# Altium integrated library SparkFun-IC-Comms.Library.IntLib: 30 symbols
Pins are listed as number, name and electrical type; pins without a type are passive.

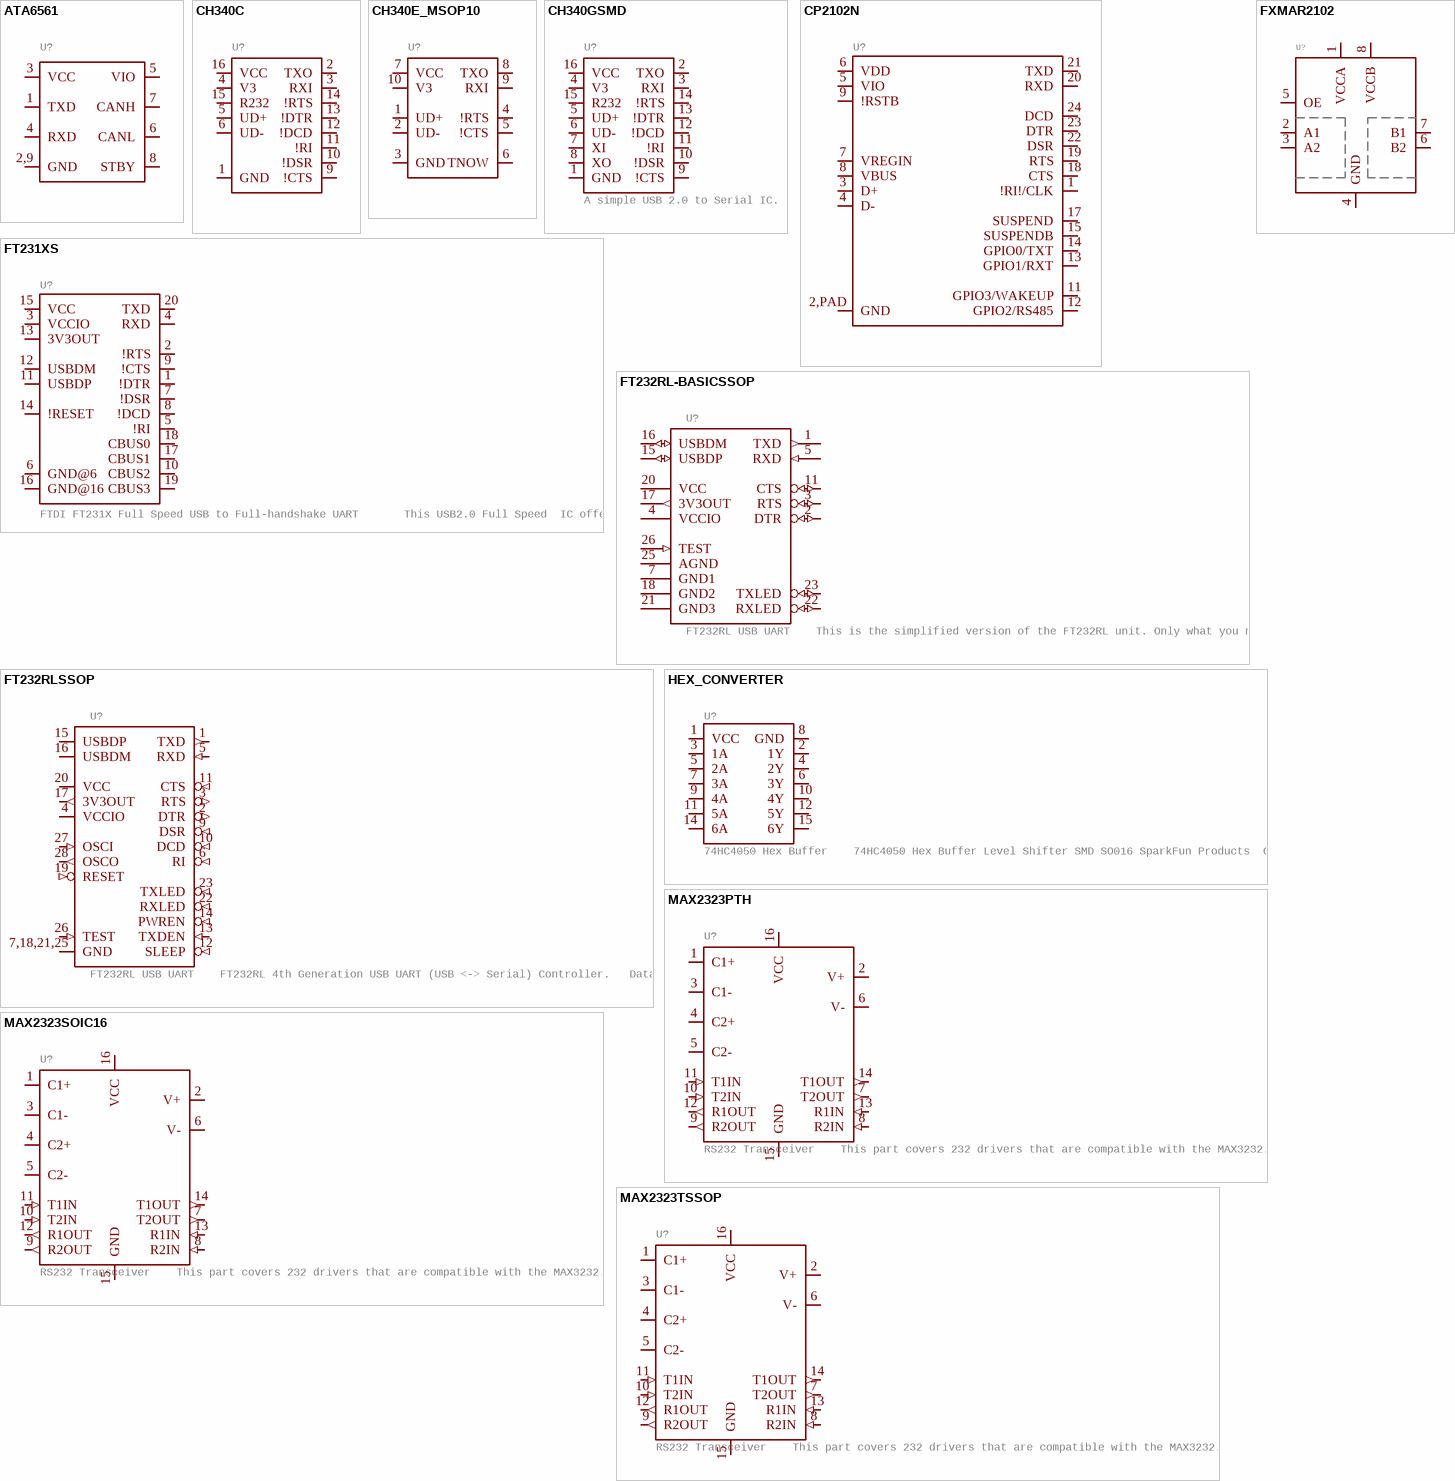
[diagram p0: symbols ATA6561 to MAX2323TSSOP]

## ATA6561
designator U?
GateName_1: G$1; SymbolName_1: ATA6561DFN8; DeviceSetName: ATA6561; PROD_ID: IC-13837; LibraryName: SparkFun-IC-Comms; Package: DFN8
footprint DFN8
pins: 1 TXD (io), 2,9 GND (io), 3 VCC (io), 4 RXD (io), 5 VIO (io), 6 CANL (io), 7 CANH (io), 8 STBY (io)

## CH340C
designator U?
GateName_1: U1; SymbolName_1: CH340C; PROD_ID: IC-14038; LibraryName: SparkFun-IC-Comms; DeviceSetName: CH340C; Package: SO016
footprint SO016
pins: 1 GND (io), 2 TXO (io), 3 RXI (io), 4 V3 (io), 5 UD+ (io), 6 UD- (io), 9 !CTS (io), 10 !DSR (io), 11 !RI (io), 12 !DCD (io), 13 !DTR (io), 14 !RTS (io), 15 R232 (io), 16 VCC (io)

## CH340E_MSOP10
designator U?
GateName_1: U1; SymbolName_1: CH340E; DeviceName: _MSOP10; PROD_ID: IC-14135; LibraryName: SparkFun-IC-Comms; DeviceSetName: CH340E; Package: MSOP10
footprint MSOP10
pins: 1 UD+ (io), 2 UD- (io), 3 GND (io), 4 !RTS (io), 5 !CTS (io), 6 TNOW (io), 7 VCC (io), 8 TXO (io), 9 RXI (io), 10 V3 (io)

## CH340GSMD
designator U?, comment A simple USB 2.0 to Serial IC.
GateName_1: U1; SymbolName_1: CH340G; DeviceName: SMD; PROD_ID: IC-13498; LibraryName: SparkFun-IC-Comms; DeviceSetName: CH340G; Package: SO016
footprint SO016
pins: 1 GND (io), 2 TXO (io), 3 RXI (io), 4 V3 (io), 5 UD+ (io), 6 UD- (io), 7 XI (io), 8 XO (io), 9 !CTS (io), 10 !DSR (io), 11 !RI (io), 12 !DCD (io), 13 !DTR (io), 14 !RTS (io), 15 R232 (io), 16 VCC (io)

## CP2102N
designator U?
GateName_1: G$1; SymbolName_1: CP2102N; PROD_ID: IC-14020; LibraryName: SparkFun-IC-Comms; DeviceSetName: CP2102N; Package: QFN24
footprint QFN24
pins: 1 !RI!/CLK (io), 2,PAD GND (io), 3 D+ (io), 4 D- (io), 5 VIO (io), 6 VDD (io), 7 VREGIN (io), 8 VBUS (io), 9 !RSTB (io), 11 GPIO3/WAKEUP (io), 12 GPIO2/RS485 (io), 13 GPIO1/RXT (io), 14 GPIO0/TXT (io), 15 SUSPENDB (io), 17 SUSPEND (io), 18 CTS (io), 19 RTS (io), 20 RXD (io), 21 TXD (io), 22 DSR (io), 23 DTR (io), 24 DCD (io)

## FT231XS
designator U?, comment FTDI FT231X Full Speed USB to Full-handshake UART       This USB2.0 Full Speed  IC offers a compact bridge to full handshake UART interfaces. The device is a UART, capable of operating up to 3MBaud, with low power consumption (8mA). The FT231X includes the complete FT-X series feature set and enables USB to be added into a system design quickly and easily over a UART interface.   Datasheet SparkFun Products  SparkFun RedBoard - Programmed with Arduino (DEV-12757)  SparkFun XBee Explorer USB (WRL-11812)  SparkFun XBee Explorer Dongle (WRL-11697)  SparkFun Blynk Board - ESP8266 (WRL-13794)  SparkFun ESP8266 Thing - Dev Board (WRL-13711)  SparkFun Block for IntelÂ® Edison - Base (DEV-13045)  SparkFun RedStick (DEV-13741)  SparkFun Beefy 3 - FTDI Basic Breakout (DEV-13746)  SparkFun FT231X Breakout (BOB-11736)
GateName_1: U$1; DeviceName: S; PROD_ID: IC-11524; SymbolName_1: FT231X; LibraryName: SparkFun-IC-Comms; DeviceSetName: FT231X; Package: SSOP20_L
footprint SSOP20_L
pins: 1 !DTR (io), 2 !RTS (io), 3 VCCIO (io), 4 RXD (io), 5 !RI (io), 6 GND@6 (io), 7 !DSR (io), 8 !DCD (io), 9 !CTS (io), 10 CBUS2 (io), 11 USBDP (io), 12 USBDM (io), 13 3V3OUT (io), 14 !RESET (io), 15 VCC (io), 16 GND@16 (io), 17 CBUS1 (io), 18 CBUS0 (io), 19 CBUS3 (io), 20 TXD (io)

## FT232RL-BASICSSOP
designator U?, comment FT232RL USB UART    This is the simplified version of the FT232RL unit. Only what you need, nothing you don't.   FT232RL 4th Generation USB UART (USB <-> Serial) Controller.   Datasheet SparkFun Products  Component (COM-00650)  SparkFun RedBot Mainboard (ROB-12097)  SparkFun FTDI Basic Breakout - 5V (DEV-09716)  SparkFun FTDI Basic Breakout - 3.3V (DEV-09873)  Bus Pirate - v3.6a (TOL-12942)  SparkFun USB to Serial Breakout - FT232RL (BOB-12731)  SparkFun PicoBoard (WIG-11888)  SparkFun RFID USB Reader (SEN-09963)  LilyPad FTDI Basic Breakout - 5V (DEV-10275)  SparkFun Stepoko (ROB-13899)
GateName_1: G$1; SymbolName_1: FT232R-BASIC; DeviceName: SSOP; DeviceSetName: FT232RL-BASIC; PROD_ID: IC-00870; LibraryName: SparkFun-IC-Comms; Package: SSOP28DB
footprint SSOP28DB
pins: 1 TXD (out), 2 DTR (io), 3 RTS (io), 4 VCCIO (power), 5 RXD (in), 7 GND1 (power), 11 CTS (io), 15 USBDP (io), 16 USBDM (io), 17 3V3OUT (out), 18 GND2 (power), 20 VCC (power), 21 GND3 (power), 22 RXLED (io), 23 TXLED (io), 25 AGND (power), 26 TEST (in)

## FT232RLSSOP
designator U?, comment FT232RL USB UART    FT232RL 4th Generation USB UART (USB <-> Serial) Controller.   Datasheet SparkFun Products  Component (COM-00650)  SparkFun RedBot Mainboard (ROB-12097)  SparkFun FTDI Basic Breakout - 5V (DEV-09716)  SparkFun FTDI Basic Breakout - 3.3V (DEV-09873)  Bus Pirate - v3.6a (TOL-12942)  SparkFun USB to Serial Breakout - FT232RL (BOB-12731)  SparkFun PicoBoard (WIG-11888)  SparkFun RFID USB Reader (SEN-09963)  LilyPad FTDI Basic Breakout - 5V (DEV-10275)  SparkFun Stepoko (ROB-13899)
GateName_1: G$1; SymbolName_1: FT232R; DeviceName: SSOP; PROD_ID: IC-00870; LibraryName: SparkFun-IC-Comms; DeviceSetName: FT232RL; Package: SSOP28DB
footprint SSOP28DB
pins: 1 TXD (out), 2 DTR (out), 3 RTS (out), 4 VCCIO (power), 5 RXD (in), 6 RI (in), 7,18,21,25 GND (power), 9 DSR (in), 10 DCD (in), 11 CTS (in), 12 SLEEP (in), 13 TXDEN (in), 14 PWREN (in), 15 USBDP (io), 16 USBDM (io), 17 3V3OUT (out), 19 RESET (in), 20 VCC (power), 22 RXLED (in), 23 TXLED (in), 26 TEST (in), 27 OSCI (in), 28 OSCO (out)

## FXMAR2102
designator U?
GateName_1: G$1; SymbolName_1: FXMAR2102; LibraryName: SparkFun-IC-Comms; DeviceSetName: FXMAR2102; Package: UFQFN-8
footprint UFQFN-8
pins: 1 VCCA (io), 2 A1 (io), 3 A2 (io), 4 GND (io), 5 OE (io), 6 B2 (io), 7 B1 (io), 8 VCCB (io)

## HEX_CONVERTER
designator U?, comment 74HC4050 Hex Buffer    74HC4050 Hex Buffer Level Shifter SMD SO016 SparkFun Products  CAN-BUS Shield (DEV-13262)  SparkFun MP3 Player Shield (DEV-12660)  SparkFun microSD Shield (DEV-12761)  SparkFun USB Host Shield (DEV-09947)
GateName_1: G$1; SymbolName_1: M74HC4050; DeviceSetName: HEX_CONVERTER; PROD_ID: IC-09604; LibraryName: SparkFun-IC-Comms; Package: SO16
footprint SO16
pins: 1 VCC (io), 2 1Y (io), 3 1A (io), 4 2Y (io), 5 2A (io), 6 3Y (io), 7 3A (io), 8 GND (io), 9 4A (io), 10 4Y (io), 11 5A (io), 12 5Y (io), 14 6A (io), 15 6Y (io)

## MAX2323PTH
designator U?, comment RS232 Transceiver    This part covers 232 drivers that are compatible with the MAX3232.   Sipex SP3232EB Datasheet SparkFun Products  SOIC component (COM-00589 /  IC-08171)  Retired DIP component (COM-00316 / IC-08446)  SparkFun Transceiver Breakout - MAX3232 (BOB-11189)  SparkFun XBee Explorer Serial (WRL-13225)
GateName_1: G$1; SymbolName_1: MAX232; DeviceName: PTH; DeviceSetName: MAX2323; LibraryName: SparkFun-IC-Comms; Package: DIP16; PROD_ID: IC-08446
footprint DIP16
pins: 1 C1+ (io), 2 V+ (io), 3 C1- (io), 4 C2+ (io), 5 C2- (io), 6 V- (io), 7 T2OUT (out), 8 R2IN (in), 9 R2OUT (out), 10 T2IN (in), 11 T1IN (in), 12 R1OUT (out), 13 R1IN (in), 14 T1OUT (out), 15 GND (io), 16 VCC (io)

## MAX2323SOIC16
designator U?, comment RS232 Transceiver    This part covers 232 drivers that are compatible with the MAX3232.   Sipex SP3232EB Datasheet SparkFun Products  SOIC component (COM-00589 /  IC-08171)  Retired DIP component (COM-00316 / IC-08446)  SparkFun Transceiver Breakout - MAX3232 (BOB-11189)  SparkFun XBee Explorer Serial (WRL-13225)
GateName_1: G$1; SymbolName_1: MAX232; DeviceName: SOIC16; DeviceSetName: MAX2323; LibraryName: SparkFun-IC-Comms; Package: SO16; PROD_ID: IC-08171
footprint SO16
pins: 1 C1+ (io), 2 V+ (io), 3 C1- (io), 4 C2+ (io), 5 C2- (io), 6 V- (io), 7 T2OUT (out), 8 R2IN (in), 9 R2OUT (out), 10 T2IN (in), 11 T1IN (in), 12 R1OUT (out), 13 R1IN (in), 14 T1OUT (out), 15 GND (io), 16 VCC (io)

## MAX2323TSSOP
designator U?, comment RS232 Transceiver    This part covers 232 drivers that are compatible with the MAX3232.   Sipex SP3232EB Datasheet SparkFun Products  SOIC component (COM-00589 /  IC-08171)  Retired DIP component (COM-00316 / IC-08446)  SparkFun Transceiver Breakout - MAX3232 (BOB-11189)  SparkFun XBee Explorer Serial (WRL-13225)
GateName_1: G$1; SymbolName_1: MAX232; DeviceName: TSSOP; DeviceSetName: MAX2323; PROD_ID: NA-XXXXX; LibraryName: SparkFun-IC-Comms; Package: TSSOP16
footprint TSSOP16
pins: 1 C1+ (io), 2 V+ (io), 3 C1- (io), 4 C2+ (io), 5 C2- (io), 6 V- (io), 7 T2OUT (out), 8 R2IN (in), 9 R2OUT (out), 10 T2IN (in), 11 T1IN (in), 12 R1OUT (out), 13 R1IN (in), 14 T1OUT (out), 15 GND (io), 16 VCC (io)

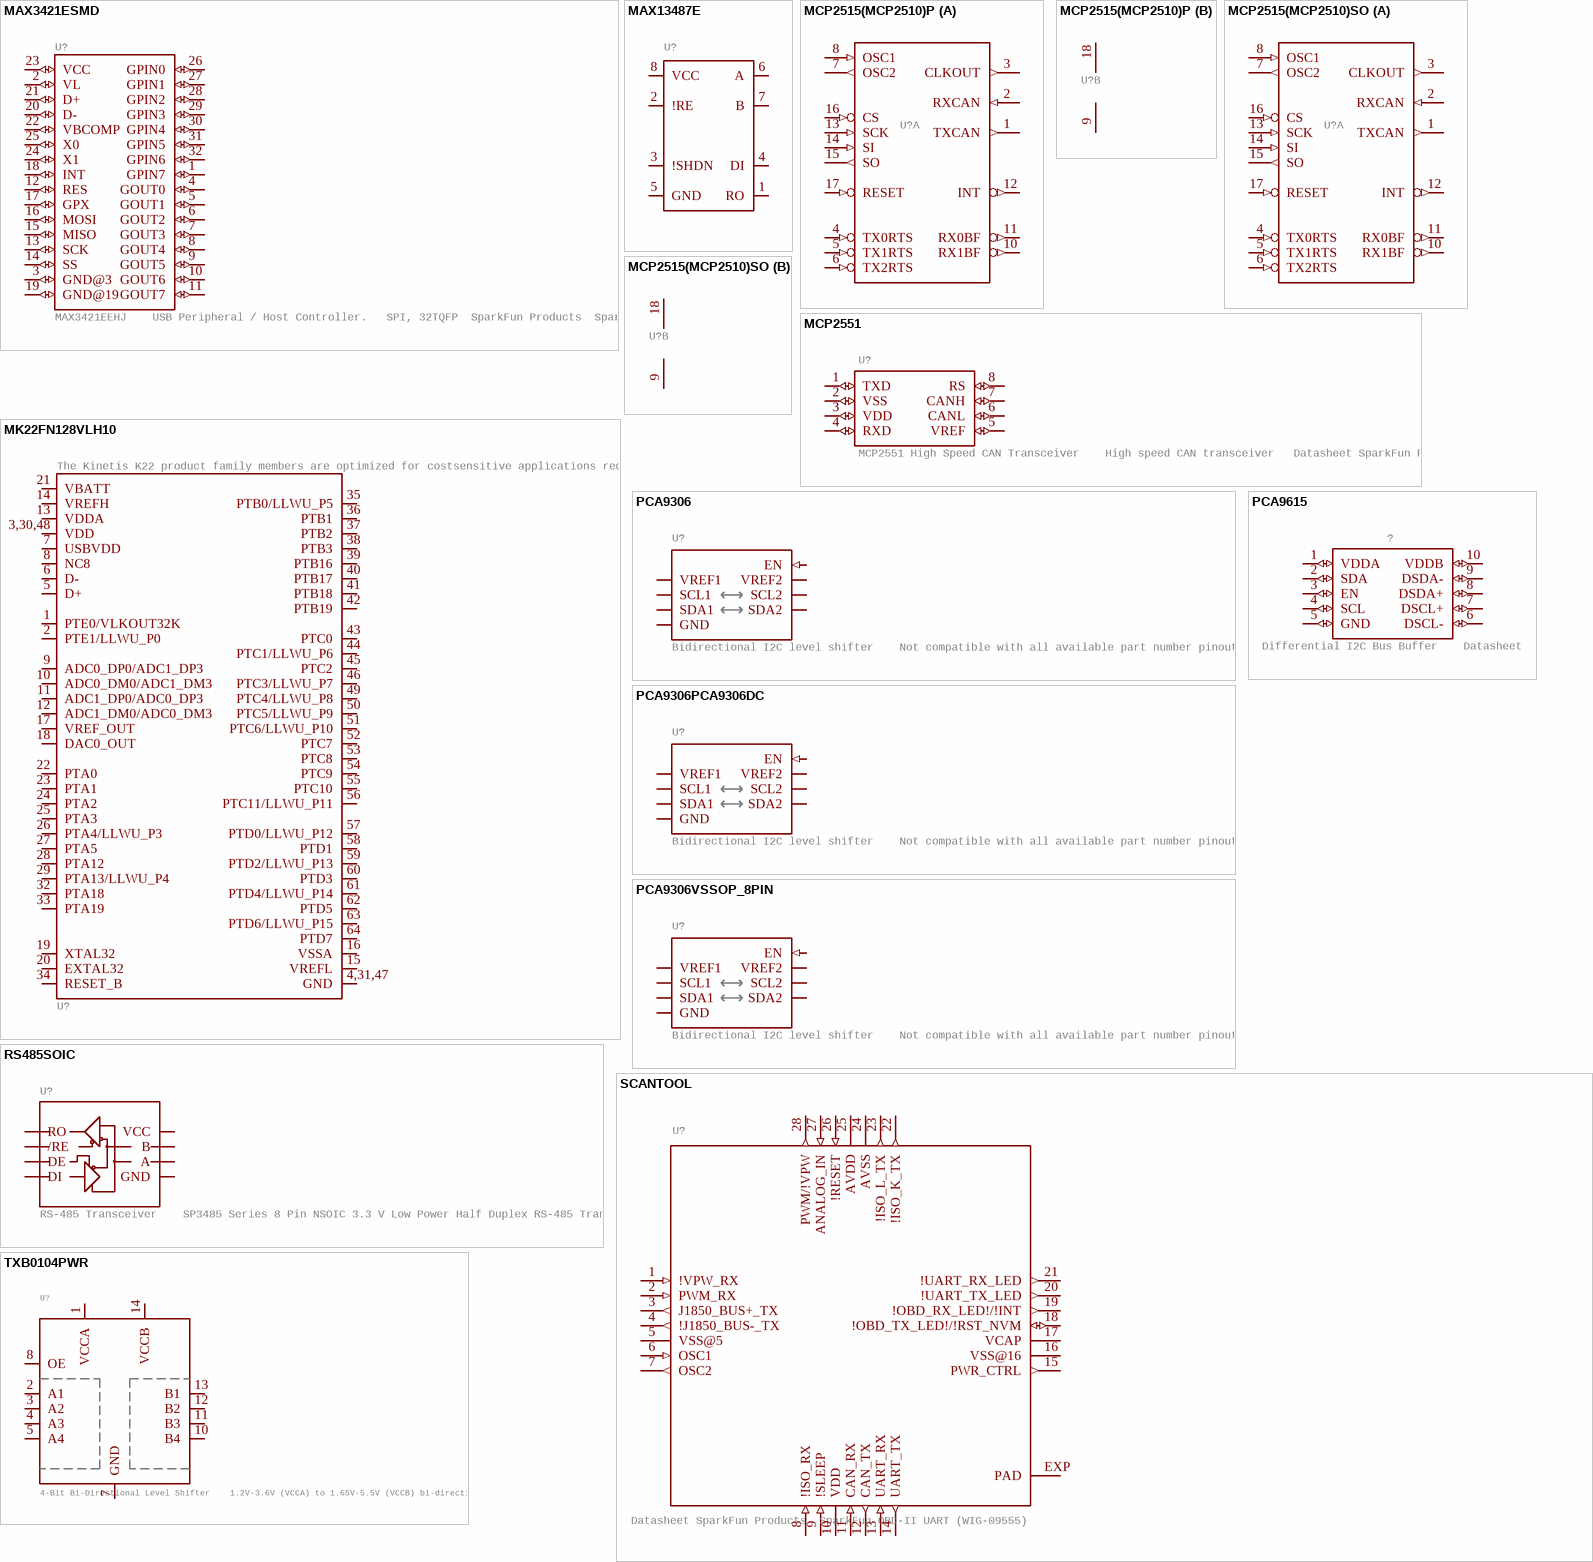
[diagram p1: symbols MAX3421ESMD to TXB0104PWR]

## MAX3421ESMD
designator U?, comment MAX3421EEHJ    USB Peripheral / Host Controller.   SPI, 32TQFP  SparkFun Products  SparkFun USB Host Shield (DEV-09947)
GateName_1: G$1; SymbolName_1: MAX3421E-1; DeviceName: SMD; PROD_ID: IC-09517; LibraryName: SparkFun-IC-Comms; DeviceSetName: MAX3421E; Package: TQFP32-5MM
footprint TQFP32-5MM
pins: 1 GPIN7 (io), 2 VL (io), 3 GND@3 (io), 4 GOUT0 (io), 5 GOUT1 (io), 6 GOUT2 (io), 7 GOUT3 (io), 8 GOUT4 (io), 9 GOUT5 (io), 10 GOUT6 (io), 11 GOUT7 (io), 12 RES (io), 13 SCK (io), 14 SS (io), 15 MISO (io), 16 MOSI (io), 17 GPX (io), 18 INT (io), 19 GND@19 (io), 20 D- (io), 21 D+ (io), 22 VBCOMP (io), 23 VCC (io), 24 X1 (io), 25 X0 (io), 26 GPIN0 (io), 27 GPIN1 (io), 28 GPIN2 (io), 29 GPIN3 (io), 30 GPIN4 (io), 31 GPIN5 (io), 32 GPIN6 (io)

## MAX13487E
designator U?
GateName_1: G$1; SymbolName_1: MAX13487E; PROD_ID: IC-13823; LibraryName: SparkFun-IC-Comms; DeviceSetName: MAX13487E; Package: SO08
footprint SO08
pins: 1 RO (io), 2 !RE (io), 3 !SHDN (io), 4 DI (io), 5 GND (io), 6 A (io), 7 B (io), 8 VCC (io)

## MCP2515(MCP2510)P
designator U?, comment CAN controller with SPI interface    The MCP2515 controller supercedes the MCP2510 while addressing all errata associated with it.  The two devices are pin compatible, either can be used with this device.  18-pin package SOIC  Simple SPI interface to any MCU.    One-shot mode ensures message transmission is attempted only once  Databyte filtering  Start-of-Frame (SOF) output  Low-power CMOS Technology       Datasheet SparkFun Products  CAN-BUS Shield (DEV-13262)  (value not drawn)
GateName_1: >NAME; GateName_2: P; SymbolName_2: PWRN-1; DeviceSetName: MCP2515(MCP2510); PROD_ID: NA-XXXXX; SymbolName_1: MCP2510; DeviceName: P; LibraryName: SparkFun-IC-Comms; Package: DIP18
footprint DIP18
part A pins: 1 TXCAN (out), 2 RXCAN (in), 3 CLKOUT (out), 4 TX0RTS (in), 5 TX1RTS (in), 6 TX2RTS (in), 7 OSC2 (out), 8 OSC1 (in), 10 RX1BF (out), 11 RX0BF (out), 12 INT (out), 13 SCK (in), 14 SI (in), 15 SO (out), 16 CS (in), 17 RESET (in)
part B pins: 9 VSS (power), 18 VDD (power)

## MCP2515(MCP2510)SO
designator U?, comment CAN controller with SPI interface    The MCP2515 controller supercedes the MCP2510 while addressing all errata associated with it.  The two devices are pin compatible, either can be used with this device.  18-pin package SOIC  Simple SPI interface to any MCU.    One-shot mode ensures message transmission is attempted only once  Databyte filtering  Start-of-Frame (SOF) output  Low-power CMOS Technology       Datasheet SparkFun Products  CAN-BUS Shield (DEV-13262)  (value not drawn)
GateName_1: >NAME; GateName_2: P; SymbolName_2: PWRN-1; DeviceName: SO; DeviceSetName: MCP2515(MCP2510); PROD_ID: IC-09906; SymbolName_1: MCP2510; LibraryName: SparkFun-IC-Comms; Package: SO18W
footprint SO18W
part A pins: 1 TXCAN (out), 2 RXCAN (in), 3 CLKOUT (out), 4 TX0RTS (in), 5 TX1RTS (in), 6 TX2RTS (in), 7 OSC2 (out), 8 OSC1 (in), 10 RX1BF (out), 11 RX0BF (out), 12 INT (out), 13 SCK (in), 14 SI (in), 15 SO (out), 16 CS (in), 17 RESET (in)
part B pins: 9 VSS (power), 18 VDD (power)

## MCP2551
designator U?, comment MCP2551 High Speed CAN Transceiver    High speed CAN transceiver   Datasheet SparkFun Products  CAN-BUS Shield (DEV-13262)  SparkFun OBD-II UART (WIG-09555)
PROD_ID: IC-09907; GateName_1: MCP2551; SymbolName_1: MCP2551; LibraryName: SparkFun-IC-Comms; DeviceSetName: MCP2551; Package: SO08
footprint SO08
pins: 1 TXD (io), 2 VSS (io), 3 VDD (io), 4 RXD (io), 5 VREF (io), 6 CANL (io), 7 CANH (io), 8 RS (io)

## MK22FN128VLH10
designator U?, comment The Kinetis K22 product family members are optimized for costsensitive applications requiring low-power, USB connectivity, high peripheral integration and processing efficiency with a floating-point unit. These devices share the comprehensive enablement and scalability of the Kinetis family.
GateName_1: G$1; SymbolName_1: MK22FN128VLH10; PROD_ID: IC-14611; LibraryName: SparkFun-IC-Comms; DeviceSetName: MK22FN128VLH10; Package: LQFP-64
footprint LQFP-64
pins: 1 PTE0/VLKOUT32K (io), 2 PTE1/LLWU_P0 (io), 3,30,48 VDD (io), 4,31,47 GND (io), 5 D+ (io), 6 D- (io), 7 USBVDD (io), 8 NC8 (io), 9 ADC0_DP0/ADC1_DP3 (io), 10 ADC0_DM0/ADC1_DM3 (io), 11 ADC1_DP0/ADC0_DP3 (io), 12 ADC1_DM0/ADC0_DM3 (io), 13 VDDA (io), 14 VREFH (io), 15 VREFL (io), 16 VSSA (io), 17 VREF_OUT (io), 18 DAC0_OUT (io), 19 XTAL32 (io), 20 EXTAL32 (io), 21 VBATT (io), 22 PTA0 (io), 23 PTA1 (io), 24 PTA2 (io), 25 PTA3 (io), 26 PTA4/LLWU_P3 (io), 27 PTA5 (io), 28 PTA12 (io), 29 PTA13/LLWU_P4 (io), 32 PTA18 (io), 33 PTA19 (io), 34 RESET_B (io), 35 PTB0/LLWU_P5 (io), 36 PTB1 (io), 37 PTB2 (io), 38 PTB3 (io), 39 PTB16 (io), 40 PTB17 (io), 41 PTB18 (io), 42 PTB19 (io), 43 PTC0 (io), 44 PTC1/LLWU_P6 (io), 45 PTC2 (io), 46 PTC3/LLWU_P7 (io), 49 PTC4/LLWU_P8 (io), 50 PTC5/LLWU_P9 (io), 51 PTC6/LLWU_P10 (io), 52 PTC7 (io), 53 PTC8 (io), 54 PTC9 (io), 55 PTC10 (io), 56 PTC11/LLWU_P11 (io), 57 PTD0/LLWU_P12 (io), 58 PTD1 (io), 59 PTD2/LLWU_P13 (io), 60 PTD3 (io), 61 PTD4/LLWU_P14 (io), 62 PTD5 (io), 63 PTD6/LLWU_P15 (io), 64 PTD7 (io)

## PCA9306
designator U?, comment Bidirectional I2C level shifter    Not compatible with all available part number pinout schemes- DOUBLE CHECK!!!    Variants PCA9306DC and PSOP-8 are EOL. If your part has VREF as pin 1 then this is your variant. VSSOP_8PIN is not EOL.   Datasheet SparkFun Products  SparkFun Inventor's Kit for RedBot (ROB-12649)  SparkFun RedBot Basic Kit (ROB-13166)  SparkFun Level Translator Breakout - PCA9306 (BOB-11955)  SparkFun Block for Intel Edison - ADC (DEV-13770)  SparkFun Block for IntelÂ® Edison - Raspberry Pi B (DEV-13044)  SparkFun RedBot Sensor - Accelerometer (SEN-12589)
GateName_1: G$1; PROD_ID: IC-10023; SymbolName_1: PCA9306; LibraryName: SparkFun-IC-Comms; DeviceSetName: PCA9306; Package: PSOP-8
footprint PSOP-8
pins: 1 VREF1 (power), 2 SCL1 (io), 3 SDA1 (io), 4 GND (power), 5 SDA2 (io), 6 SCL2 (io), 7 VREF2 (power), 8 EN (in)

## PCA9306PCA9306DC
designator U?, comment Bidirectional I2C level shifter    Not compatible with all available part number pinout schemes- DOUBLE CHECK!!!    Variants PCA9306DC and PSOP-8 are EOL. If your part has VREF as pin 1 then this is your variant. VSSOP_8PIN is not EOL.   Datasheet SparkFun Products  SparkFun Inventor's Kit for RedBot (ROB-12649)  SparkFun RedBot Basic Kit (ROB-13166)  SparkFun Level Translator Breakout - PCA9306 (BOB-11955)  SparkFun Block for Intel Edison - ADC (DEV-13770)  SparkFun Block for IntelÂ® Edison - Raspberry Pi B (DEV-13044)  SparkFun RedBot Sensor - Accelerometer (SEN-12589)
GateName_1: G$1; PROD_ID: IC-10023; SymbolName_1: PCA9306; DeviceName: PCA9306DC; LibraryName: SparkFun-IC-Comms; DeviceSetName: PCA9306; Package: PCA9306DC
footprint PCA9306DC
pins: 1 VREF1 (power), 2 SCL1 (io), 3 SDA1 (io), 4 GND (power), 5 SDA2 (io), 6 SCL2 (io), 7 VREF2 (power), 8 EN (in)

## PCA9306VSSOP_8PIN
designator U?, comment Bidirectional I2C level shifter    Not compatible with all available part number pinout schemes- DOUBLE CHECK!!!    Variants PCA9306DC and PSOP-8 are EOL. If your part has VREF as pin 1 then this is your variant. VSSOP_8PIN is not EOL.   Datasheet SparkFun Products  SparkFun Inventor's Kit for RedBot (ROB-12649)  SparkFun RedBot Basic Kit (ROB-13166)  SparkFun Level Translator Breakout - PCA9306 (BOB-11955)  SparkFun Block for Intel Edison - ADC (DEV-13770)  SparkFun Block for IntelÂ® Edison - Raspberry Pi B (DEV-13044)  SparkFun RedBot Sensor - Accelerometer (SEN-12589)
GateName_1: G$1; PROD_ID: IC-14450; SymbolName_1: PCA9306; DeviceName: VSSOP_8PIN; LibraryName: SparkFun-IC-Comms; DeviceSetName: PCA9306; Package: VSSOP_8PIN
footprint VSSOP_8PIN
pins: P1 GND (power), P2 VREF1 (power), P3 SCL1 (io), P4 SDA1 (io), P5 SDA2 (io), P6 SCL2 (io), P7 VREF2 (power), P8 EN (in)

## PCA9615
designator ?, comment Differential I2C Bus Buffer    Datasheet
GateName_1: G$1; SymbolName_1: PCA9615; PROD_ID: IC-13899; LibraryName: SparkFun-IC-Comms; DeviceSetName: PCA9615; Package: TSSOP10
footprint TSSOP10
pins: 1 VDDA (io), 2 SDA (io), 3 EN (io), 4 SCL (io), 5 GND (io), 6 DSCL- (io), 7 DSCL+ (io), 8 DSDA+ (io), 9 DSDA- (io), 10 VDDB (io)

## RS485SOIC
designator U?, comment RS-485 Transceiver    SP3485 Series 8 Pin NSOIC 3.3 V Low Power Half Duplex RS-485 Transceiver   MAX3485 compatible   Datasheet SparkFun Products  SparkFun Transceiver Breakout - RS-485 (BOB-10124)  SparkFun USB to RS-485 Converter (BOB-09822)
GateName_1: G$1; SymbolName_1: RS485; DeviceName: SOIC; PROD_ID: IC-09388; LibraryName: SparkFun-IC-Comms; DeviceSetName: RS485; Package: SO08
footprint SO08
pins: 1 RO (io), 2 /RE (io), 3 DE (io), 4 DI (io), 5 GND (io), 6 A (io), 7 B (io), 8 VCC (io)

## SCANTOOL
designator U?, comment Multiprotocol OBD II to UART Interpreter, QFN Package    This part, the STN1110, is a preprogrammed pic from ScanTool.   Contact: vit@scantool.net   Datasheet SparkFun Products  SparkFun OBD-II UART (WIG-09555)
GateName_1: G$1; SymbolName_1: STN1110-QFN; PROD_ID: IC-10017; LibraryName: SparkFun-IC-Comms; DeviceSetName: SCANTOOL; Package: _STN_SCANTOOL_QFN-28-S
footprint _STN_SCANTOOL_QFN-28-S
pins: 1 !VPW_RX (in), 2 PWM_RX (in), 3 J1850_BUS+_TX (out), 4 !J1850_BUS-_TX (out), 5 VSS@5 (power), 6 OSC1 (in), 7 OSC2 (out), 8 !ISO_RX (in), 9 !SLEEP (in), 10 VDD (power), 11 CAN_RX (in), 12 CAN_TX (out), 13 UART_RX (in), 14 UART_TX (out), 15 PWR_CTRL (out), 16 VSS@16 (power), 17 VCAP (power), 18 !OBD_TX_LED!/!RST_NVM (io), 19 !OBD_RX_LED!/!INT (out), 20 !UART_TX_LED (out), 21 !UART_RX_LED (out), 22 !ISO_K_TX (out), 23 !ISO_L_TX (out), 24 AVSS (power), 25 AVDD (power), 26 !RESET (in), 27 ANALOG_IN (in), 28 PWM/!VPW (out), EXP PAD

## TXB0104PWR
designator U?, comment 4-Bit Bi-Directional Level Shifter    1.2V-3.6V (VCCA) to 1.65V-5.5V (VCCB) bi-directional level shifter with auto direction sensing.    Max data rate - VCCA 1.8V:  20Mbps (50ns), VCCA 3.3V: 100Mbps (10ns)    Digikey: 296-21929-1-ND (TSSOP)       Datasheet SparkFun Products  SparkFun Cellular Shield - MG2639 (CEL-13120)  SparkFun Level Shifting microSD Breakout (DEV-13743)  SparkFun Voltage-Level Translator Breakout - TXB0104 (BOB-11771)  SparkFun Block for IntelÂ® Edison - UART (DEV-13040)  SparkFun Block for IntelÂ® Edison - Arduino (DEV-13036)
GateName_1: G$1; SymbolName_1: TXB0104PWR; PROD_ID: IC-13929; LibraryName: SparkFun-IC-Comms; DeviceSetName: TXB0104PWR; Package: TSSOP14
footprint TSSOP14
pins: 1 VCCA (io), 2 A1 (io), 3 A2 (io), 4 A3 (io), 5 A4 (io), 7 GND (io), 8 OE (io), 10 B4 (io), 11 B3 (io), 12 B2 (io), 13 B1 (io), 14 VCCB (io)

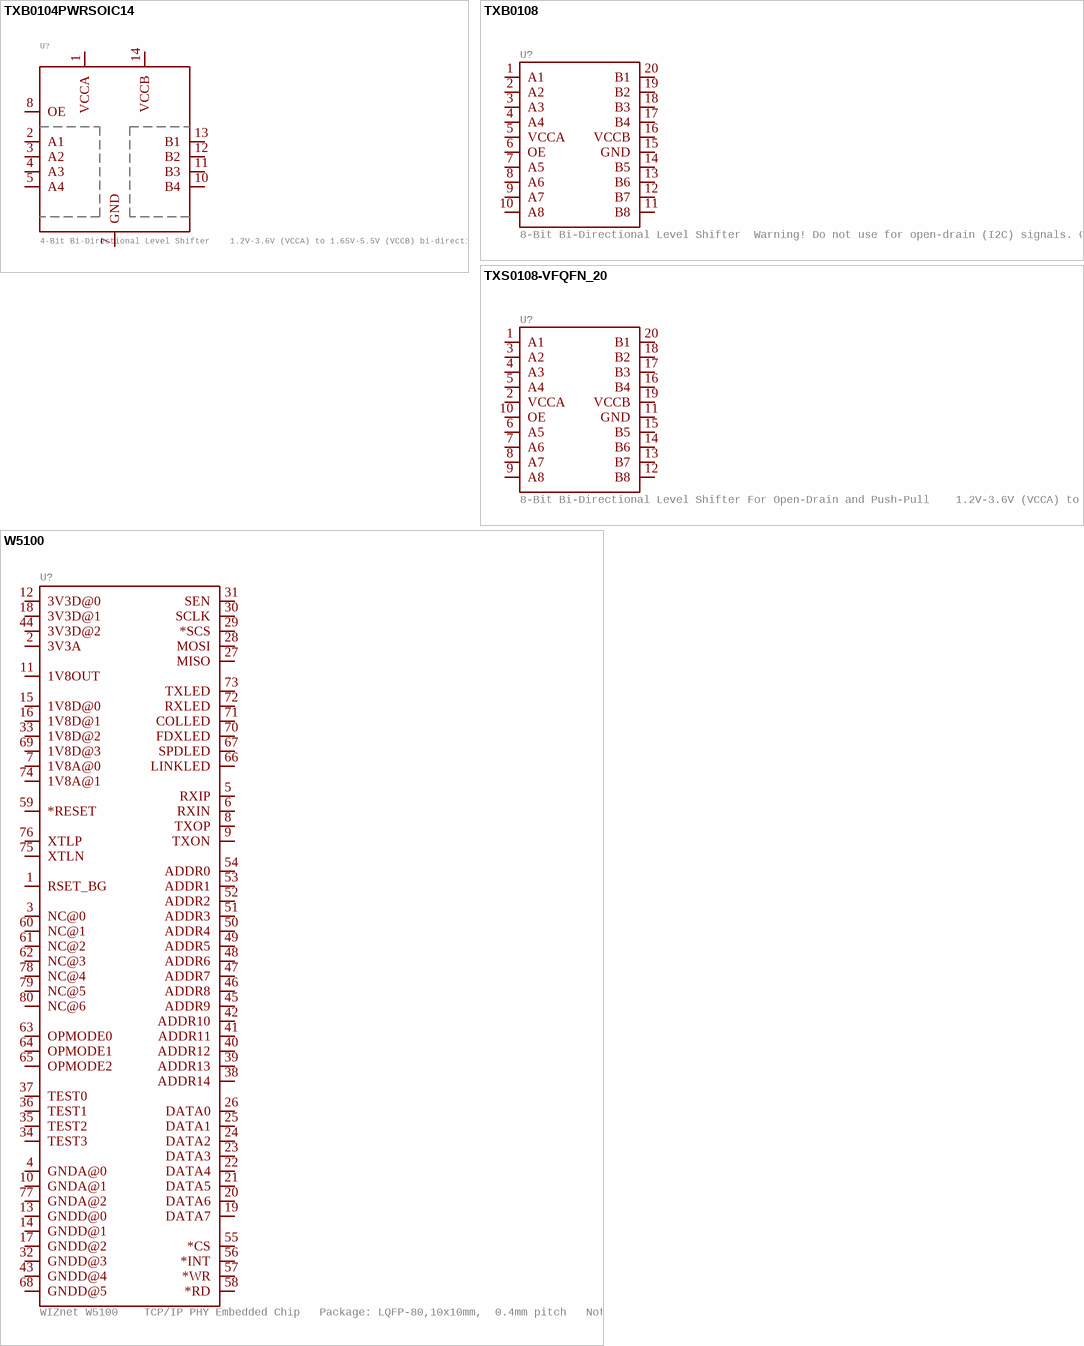
[diagram p2: symbols TXB0104PWRSOIC14 to W5100]

## TXB0104PWRSOIC14
designator U?, comment 4-Bit Bi-Directional Level Shifter    1.2V-3.6V (VCCA) to 1.65V-5.5V (VCCB) bi-directional level shifter with auto direction sensing.    Max data rate - VCCA 1.8V:  20Mbps (50ns), VCCA 3.3V: 100Mbps (10ns)    Digikey: 296-21929-1-ND (TSSOP)       Datasheet SparkFun Products  SparkFun Cellular Shield - MG2639 (CEL-13120)  SparkFun Level Shifting microSD Breakout (DEV-13743)  SparkFun Voltage-Level Translator Breakout - TXB0104 (BOB-11771)  SparkFun Block for IntelÂ® Edison - UART (DEV-13040)  SparkFun Block for IntelÂ® Edison - Arduino (DEV-13036)
GateName_1: G$1; SymbolName_1: TXB0104PWR; DeviceName: SOIC14; PROD_ID: IC-11329; LibraryName: SparkFun-IC-Comms; DeviceSetName: TXB0104PWR; Package: SO14
footprint SO14
pins: 1 VCCA (io), 2 A1 (io), 3 A2 (io), 4 A3 (io), 5 A4 (io), 7 GND (io), 8 OE (io), 10 B4 (io), 11 B3 (io), 12 B2 (io), 13 B1 (io), 14 VCCB (io)

## TXB0108
designator U?, comment 8-Bit Bi-Directional Level Shifter  Warning! Do not use for open-drain (I2C) signals. Consider TXS0108    1.2V-3.6V (VCCA) to 1.65V-5.5V (VCCB) bi-directional level shifter with auto direction sensing.    Max data rate - VCCA 1.2V:  20Mbps (50ns), VCCA 3.3V: 100Mbps (10ns)    Digikey: 296-27217-1-ND (20-UFDFN)     SparkFun Products  SparkFun GPS Logger Shield (GPS-13750)  SparkFun Block for IntelÂ® Edison - microSD (DEV-13041)  SparkFun Block for IntelÂ® Edison - Dual H-Bridge (DEV-13043)  SparkFun Block for IntelÂ® Edison - GPIO (DEV-13038)  SparkFun Block for IntelÂ® Edison - Raspberry Pi B (DEV-13044)
GateName_1: G$1; SymbolName_1: TXB0108; PROD_ID: IC-12292; LibraryName: SparkFun-IC-Comms; DeviceSetName: TXB0108; Package: UFDFN-20
footprint UFDFN-20
pins: 1 A1 (io), 2 A2 (io), 3 A3 (io), 4 A4 (io), 5 VCCA (io), 6 OE (io), 7 A5 (io), 8 A6 (io), 9 A7 (io), 10 A8 (io), 11 B8 (io), 12 B7 (io), 13 B6 (io), 14 B5 (io), 15 GND (io), 16 VCCB (io), 17 B4 (io), 18 B3 (io), 19 B2 (io), 20 B1 (io)

## TXS0108-VFQFN_20
designator U?, comment 8-Bit Bi-Directional Level Shifter For Open-Drain and Push-Pull    1.2V-3.6V (VCCA) to 1.65V-5.5V (VCCB) bi-directional level shifter with auto direction sensing.    Max data rate - VCCA 1.2V:  20Mbps (50ns), VCCA 3.3V: 100Mbps (10ns)    Digikey: 296-24806-2-ND (20-VFDFN)     SparkFun Products  Example Product (SKU)
GateName_1: G$1; SymbolName_1: TXB0108; DeviceName: -VFQFN_20; DeviceSetName: TXS0108; PROD_ID: IC-14343; LibraryName: SparkFun-IC-Comms; Package: VFQFN-20
footprint VFQFN-20
pins: 1 A1 (io), 2 VCCA (io), 3 A2 (io), 4 A3 (io), 5 A4 (io), 6 A5 (io), 7 A6 (io), 8 A7 (io), 9 A8 (io), 10 OE (io), 11 GND (io), 12 B8 (io), 13 B7 (io), 14 B6 (io), 15 B5 (io), 16 B4 (io), 17 B3 (io), 18 B2 (io), 19 VCCB (io), 20 B1 (io)

## W5100
designator U?, comment WIZnet W5100    TCP/IP PHY Embedded Chip   Package: LQFP-80,10x10mm,  0.4mm pitch   Note: There is no internal production part or ID for this IC.   Datasheet SparkFun Products  WIZnet W5100 Network Module with Mag Jack - WIZ811MJ (DEV-09473)
GateName_1: G$1; PROD_ID: NA-XXXXX; SymbolName_1: W5100; LibraryName: SparkFun-IC-Comms; DeviceSetName: W5100; Package: LQFP-80
footprint LQFP-80
pins: 1 RSET_BG (io), 2 3V3A (io), 3 NC@0 (io), 4 GNDA@0 (io), 5 RXIP (io), 6 RXIN (io), 7 1V8A@0 (io), 8 TXOP (io), 9 TXON (io), 10 GNDA@1 (io), 11 1V8OUT (io), 12 3V3D@0 (io), 13 GNDD@0 (io), 14 GNDD@1 (io), 15 1V8D@0 (io), 16 1V8D@1 (io), 17 GNDD@2 (io), 18 3V3D@1 (io), 19 DATA7 (io), 20 DATA6 (io), 21 DATA5 (io), 22 DATA4 (io), 23 DATA3 (io), 24 DATA2 (io), 25 DATA1 (io), 26 DATA0 (io), 27 MISO (io), 28 MOSI (io), 29 *SCS (io), 30 SCLK (io), 31 SEN (io), 32 GNDD@3 (io), 33 1V8D@2 (io), 34 TEST3 (io), 35 TEST2 (io), 36 TEST1 (io), 37 TEST0 (io), 38 ADDR14 (io), 39 ADDR13 (io), 40 ADDR12 (io), 41 ADDR11 (io), 42 ADDR10 (io), 43 GNDD@4 (io), 44 3V3D@2 (io), 45 ADDR9 (io), 46 ADDR8 (io), 47 ADDR7 (io), 48 ADDR6 (io), 49 ADDR5 (io), 50 ADDR4 (io), 51 ADDR3 (io), 52 ADDR2 (io), 53 ADDR1 (io), 54 ADDR0 (io), 55 *CS (io), 56 *INT (io), 57 *WR (io), 58 *RD (io), 59 *RESET (io), 60 NC@1 (io), 61 NC@2 (io), 62 NC@3 (io), 63 OPMODE0 (io), 64 OPMODE1 (io), 65 OPMODE2 (io), 66 LINKLED (io), 67 SPDLED (io), 68 GNDD@5 (io), 69 1V8D@3 (io), 70 FDXLED (io), 71 COLLED (io), 72 RXLED (io), 73 TXLED (io), 74 1V8A@1 (io), 75 XTLN (io), 76 XTLP (io), 77 GNDA@2 (io), 78 NC@4 (io), 79 NC@5 (io), 80 NC@6 (io)